# Altium schematic symbol library SCH - IC-Memory - MB85RS4MTPF.SchLib: 1 symbol
Pins are listed as number, name and electrical type; pins without a type are passive.

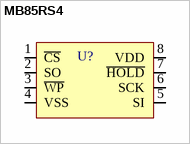
[diagram p0: symbol MB85RS4]

## MB85RS4
designator U?
pins: 1 ~{CS} (in) "Inverting Chip Select", 2 SO (in) "Serial Data Output", 3 ~{WP} (in) "Inverting Write Protection", 4 VSS (in) "GND", 5 SI (in) "Serial data in", 6 SCK (in) "Clock", 7 ~{HOLD} (in) "Inverting Hold", 8 VDD (in) "3.3V Power In"